# EAGLE library part 74175 (library dooba)
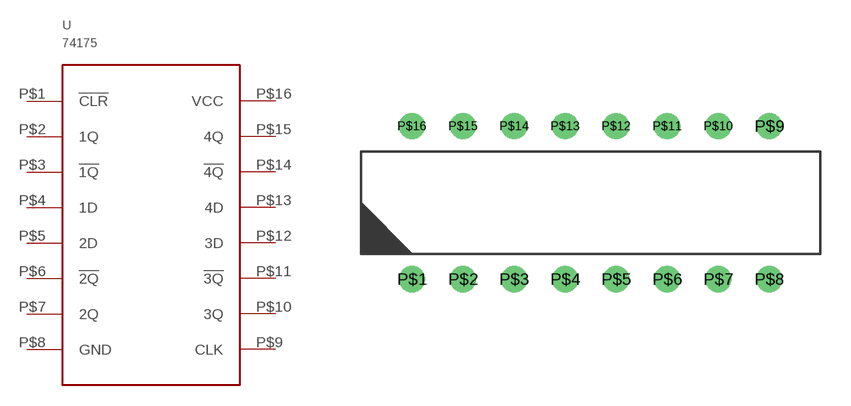
[diagram p59: symbol with the pads of PDIP16; footprint PDIP16]

Designator prefix U

## 74175PDIP  [PDIP16]
P$1  !CLR
P$2  1Q
P$3  !1Q
P$4  1D
P$5  2D
P$6  !2Q
P$7  2Q
P$8  GND
P$9  CLK
P$10  3Q
P$11  !3Q
P$12  3D
P$13  4D
P$14  !4Q
P$15  4Q
P$16  VCC

## Footprint PDIP16 (pad centres in mm)
drill 0.8: P$1 -8.89,-3.81; P$2 -6.35,-3.81; P$3 -3.81,-3.81; P$4 -1.27,-3.81; P$5 1.27,-3.81; P$6 3.81,-3.81; P$7 6.35,-3.81; P$8 8.89,-3.81; P$9 8.89,3.81; P$10 6.35,3.81; P$11 3.81,3.81; P$12 1.27,3.81; P$13 -1.27,3.81; P$14 -3.81,3.81; P$15 -6.35,3.81; P$16 -8.89,3.81